# Altium footprint library PcbLib1.PcbLib: 6 footprints
Each footprint in its own frame and in the unit in brackets; x right, y up, seen from the top. Pads: shape width x height; smd on the part's side, far side on the other; paste and mask are expansions set on the pad; w line width, h text height; cw(c..) or ccw(c..) is an arc to the next point about the centre after c.
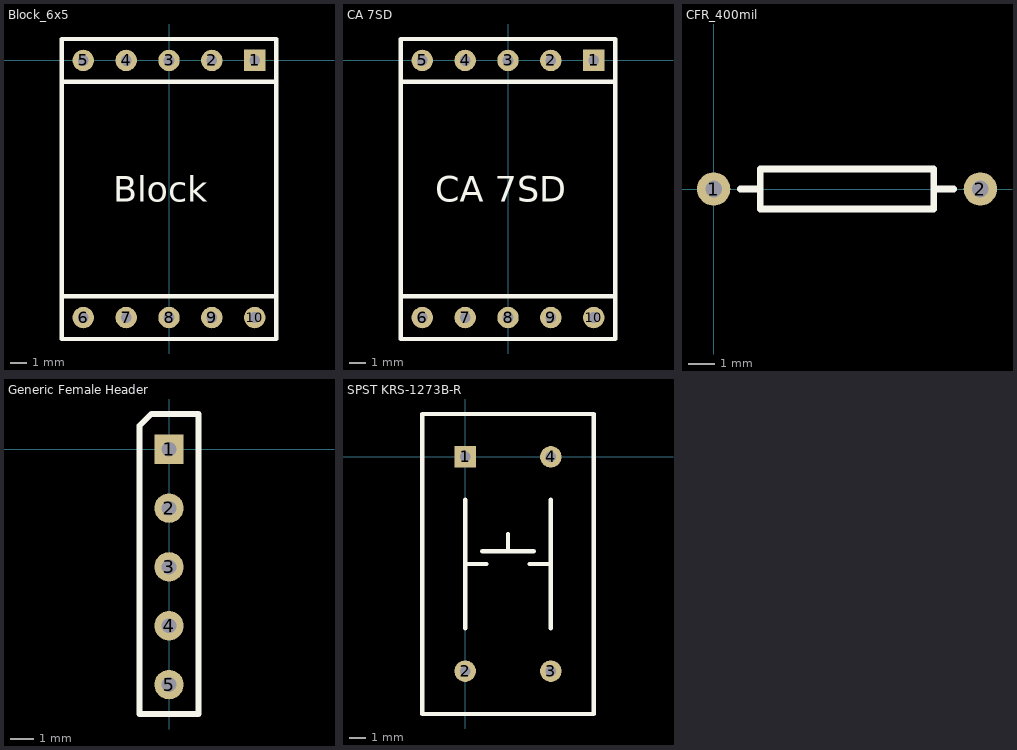
[diagram p0: the footprints below, top view; thin cyan lines are the x and y axes]

## Block_6x5 [mil]
pads (10):
  rect 50x50 hole 25: 1(200,0)
  round 50 hole 25: 2(100,0) 3(0,0) 4(-100,0) 5(-200,0) 6(-200,-600) 7(-100,-600) 8(0,-600) 9(100,-600) 10(200,-600)
Top Overlay:
  lines w10: -250,-550 250,-550 ; -250,-50 250,-50 ; -250,-650 250,-650 250,50 -250,50 -250,-650
  text "Block" at -129.96,-329.99 h60

## CA 7SD [mil]
pads (10):
  rect 50x50 hole 25: 1(200,0)
  round 50 hole 25: 2(100,0) 3(0,0) 4(-100,0) 5(-200,0) 6(-200,-600) 7(-100,-600) 8(0,-600) 9(100,-600) 10(200,-600)
Top Overlay:
  lines w10: -250,-550 250,-550 ; -250,-50 250,-50 ; -250,-650 -250,50 250,50 250,-650 -250,-650
  text "CA 7SD" at -169.94,-329.99 h60

## CFR_400mil [mil]
pads (2):
  round 50 hole 25: 1(0,0) 2(400,0)
Top Overlay:
  lines w10: 40,0 70,0 ; 330,0 360,0 ; 70,0 70,-30 330,-30 330,30 70,30 70,0

## Generic Female Header [mil]
pads (5):
  rect 50x50 / inner rect 100x50 / far side rect 50x50 hole 25: 1(0,0)
  round 50 / inner oval 100x50 / far side round 50 hole 25: 2(0,-100) 3(0,-200) 4(0,-300) 5(0,-400)
Top Overlay:
  lines w10: -50,-450 -50,40 -30,60 50,60 50,-450 -50,-450

## PCBComponent_1 [mil]

## SPST KRS-1273B-R [mil]
pads (4):
  rect 50x50 hole 25: 1(0,0)
  round 50 hole 25: 2(0,-500) 3(200,-500) 4(200,0)
Top Overlay:
  lines w10: 0,-400 0,-100 ; 0,-250 50,-250 ; 40,-220 160,-220 ; 100,-220 100,-180 ; 150,-250 200,-250 ; 200,-400 200,-100 ; -100,-600 -100,100 300,100 300,-600 -100,-600